# EAGLE library part DIN05_F2 (library DMClock2018)
DIN connector, 5 poles, with 2 frame poles
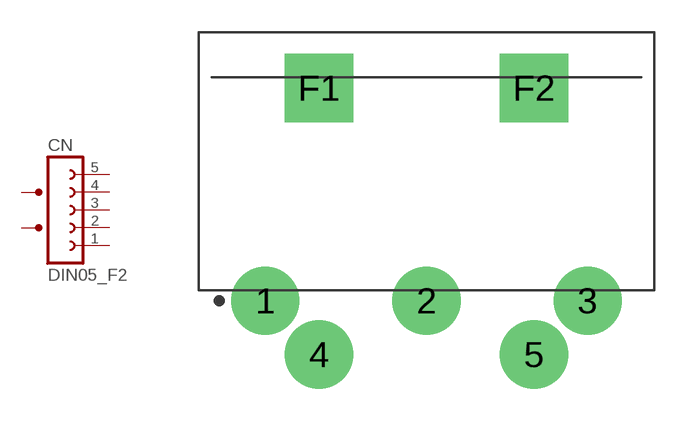
[diagram p4: symbol with the pads of KDJ03-5; footprint KDJ03-5]

Designator prefix CN

## DIN05_F2'KDJ03'  [KDJ03-5]
1  1  pas
2  2  pas
3  3  pas
4  4  pas
5  5  pas
F1  F1  pas
F2  F2  pas

## Footprint KDJ03-5 (pad centres in mm)
drill 1.5 pad 3.175 round: 1 -7.5,0; 2 0,0; 3 7.5,0; 4 -5,-2.5; 5 5,-2.5
drill 1.5 pad 3.175 square: F1 -5,9.9; F2 5,9.9